# Altium footprint library LQFP.PcbLib: 2 footprints
Each footprint in its own frame and in the unit in brackets; x right, y up, seen from the top. Pads: shape width x height; smd on the part's side, far side on the other; paste and mask are expansions set on the pad; w line width, h text height; cw(c..) or ccw(c..) is an arc to the next point about the centre after c.
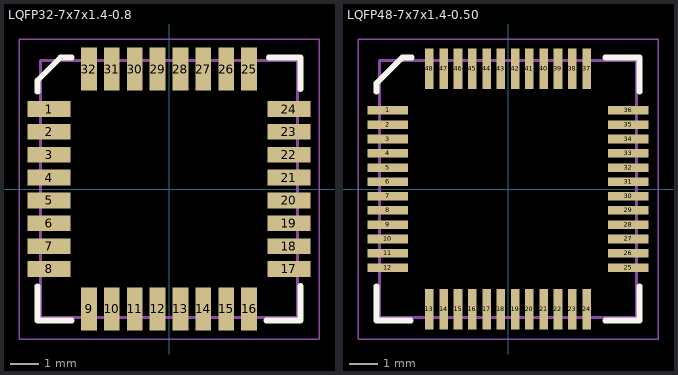
[diagram p0: the footprints below, top view; thin cyan lines are the x and y axes]

## LQFP32-7x7x1.4-0.8 [mm] "LQFP 32 pins, 7x7x1.4mm body, 0.80 pitch"
height 1.5
pads (32):
  rect 1.5x0.55 smd: 1(-4.2,2.8) 2(-4.2,2) 3(-4.2,1.2) 4(-4.2,0.4) 5(-4.2,-0.4) 6(-4.2,-1.2) 7(-4.2,-2) 8(-4.2,-2.8) 17(4.2,-2.8) 18(4.2,-2) 19(4.2,-1.2) 20(4.2,-0.4) 21(4.2,0.4) 22(4.2,1.2) 23(4.2,2) 24(4.2,2.8)
  rect 0.55x1.5 smd: 9(-2.8,-4.2) 10(-2,-4.2) 11(-1.2,-4.2) 12(-0.4,-4.2) 13(0.4,-4.2) 14(1.2,-4.2) 15(2,-4.2) 16(2.8,-4.2) 25(2.8,4.2) 26(2,4.2) 27(1.2,4.2) 28(0.4,4.2) 29(-0.4,4.2) 30(-1.2,4.2) 31(-2,4.2) 32(-2.8,4.2)
Top Overlay:
  lines w0.2: -4.6,-3.4 -4.6,-4.6 -3.4,-4.6 ; -4.6,3.4 -4.6,3.8 -3.8,4.6 -3.4,4.6 ; 3.4,-4.6 4.6,-4.6 4.6,-3.395 ; 3.495,4.6 4.6,4.6 4.6,3.5
Mechanical 13:
  lines w0.1: -4.5,-4.5 -4.5,4.5 4.5,4.5 4.5,-4.5 -4.5,-4.5
Mechanical 15:
  lines w0.05: -5.25,-5.25 5.25,-5.25 5.25,5.25 -5.25,5.25 -5.25,-5.25
3D body: height 1.55, standoff 0.05, extent -4.5,-4.5 4.5,4.5

## LQFP48-7x7x1.4-0.50 [mm] "LQFP 48 pins, 7x7x1.4mm body, 0.50 pitch"
height 1.5
pads (48):
  rect 1.41x0.3 smd: 1(-4.21,2.75) 2(-4.21,2.25) 3(-4.21,1.75) 4(-4.21,1.25) 5(-4.21,0.75) 6(-4.21,0.25) 7(-4.21,-0.25) 8(-4.21,-0.75) 9(-4.21,-1.25) 10(-4.21,-1.75) 11(-4.21,-2.25) 12(-4.21,-2.75) 25(4.21,-2.75) 26(4.21,-2.25) 27(4.21,-1.75) 28(4.21,-1.25) 29(4.21,-0.75) 30(4.21,-0.25) 31(4.21,0.25) 32(4.21,0.75) 33(4.21,1.25) 34(4.21,1.75) 35(4.21,2.25) 36(4.21,2.75)
  rect 0.3x1.41 smd: 13(-2.75,-4.21) 14(-2.25,-4.21) 15(-1.75,-4.21) 16(-1.25,-4.21) 17(-0.75,-4.21) 18(-0.25,-4.21) 19(0.25,-4.21) 20(0.75,-4.21) 21(1.25,-4.21) 22(1.75,-4.21) 23(2.25,-4.21) 24(2.75,-4.21) 37(2.75,4.21) 38(2.25,4.21) 39(1.75,4.21) 40(1.25,4.21) 41(0.75,4.21) 42(0.25,4.21) 43(-0.25,4.21) 44(-0.75,4.21) 45(-1.25,4.21) 46(-1.75,4.21) 47(-2.25,4.21) 48(-2.75,4.21)
Top Overlay:
  lines w0.2: -4.6,-3.4 -4.6,-4.6 -3.4,-4.6 ; -4.6,3.4 -4.6,3.7 -3.7,4.6 -3.365,4.6 ; 3.4,-4.6 4.6,-4.6 4.6,-3.4 ; 3.4,4.6 4.6,4.6 4.6,3.4
Mechanical 13:
  lines w0.1: -4.5,-4.5 -4.5,4.5 4.5,4.5 4.5,-4.5 -4.5,-4.5
Mechanical 15:
  lines w0.05: -5.25,-5.25 -5.25,5.25 5,5.25 5.25,5.25 5.25,-5.25 -5.25,-5.25
3D body: height 1.55, standoff 0.05, extent -4.5,-4.5 4.5,4.5